# Altium footprint library BatteryIot -V2.PcbLib: 31 footprints (part 1 of 2)
Each footprint in its own frame and in the unit in brackets; x right, y up, seen from the top. Pads: shape width x height; smd on the part's side, far side on the other; paste and mask are expansions set on the pad; w line width, h text height; cw(c..) or ccw(c..) is an arc to the next point about the centre after c.
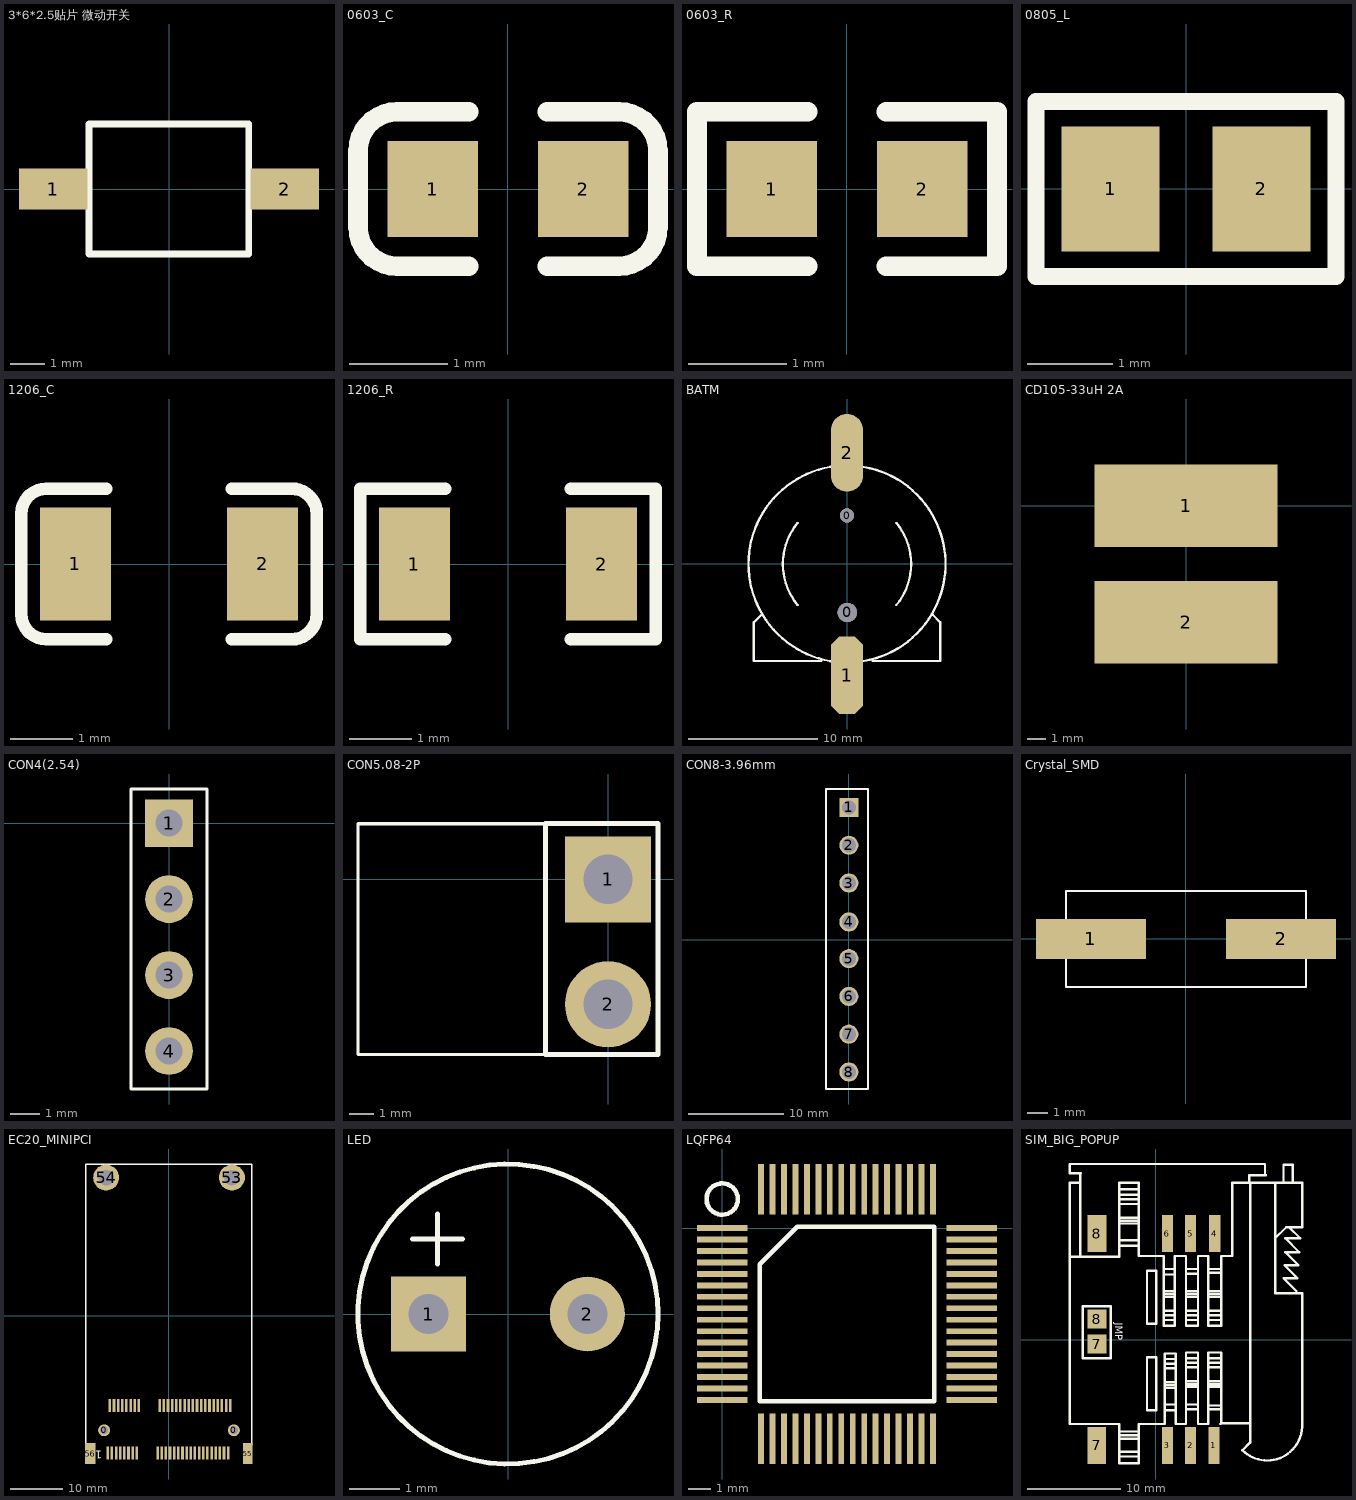
[diagram p0: the footprints below, top view; thin cyan lines are the x and y axes]

## 3*6*2.5贴片 微动开关 [mm]
height 10
pads (2):
  rect 2x1.2 smd mask+0.05: 1(-3.375,0) 2(3.375,0)
Top Overlay:
  lines w0.2: -2.334,-1.9 2.325,-1.9 2.325,1.9 -2.334,1.9 -2.334,-1.9

## 0603_C [mm]
height 1.7
pads (2):
  rect 0.93x0.98 smd: 1(-0.77,0) 2(0.77,0)
Top Overlay:
  lines w0.2: -0.4,-0.79 -1.135,-0.79 cw(c-1.135,-0.39) -1.535,-0.39 -1.535,0.39 cw(c-1.135,0.39) -1.135,0.79 -0.4,0.79 ; 0.4,-0.79 1.135,-0.79 ccw(c1.135,-0.39) 1.535,-0.39 1.535,0.39 ccw(c1.135,0.39) 1.135,0.79 0.4,0.79
3D body "User Library-0603 SMD Capacitor.STEP": height 0.3, standoff 0, extent -0.8,-0.4 0.8,0.4

## 0603_R [mm]
height 29
pads (2):
  rect 0.93x0.98 smd: 1(-0.77,0) 2(0.77,0)
Top Overlay:
  lines w0.2: -0.4,-0.79 -1.535,-0.79 -1.535,0.79 -0.4,0.79 ; 0.4,-0.79 1.535,-0.79 1.535,0.79 0.4,0.79
3D body "User Library-RES_1609-0603.STEP": height 0.56, standoff 0, extent -0.85,-0.4 0.85,0.4

## 0805_L [mm]
height 29
pads (2):
  rect 1.16x1.47 smd: 1(-0.89,0) 2(0.89,0)
Top Overlay:
  lines w0.2: -1.77,-1.035 1.77,-1.035 1.77,1.035 -1.77,1.035 -1.77,-1.035
3D body "L0805.STEP": height 0.6, standoff -0.02, extent -0.998,-0.638 1.005,0.637

## 1206_C [mm]
pads (2):
  rect 1.13x1.8 smd: 1(-1.49,0) 2(1.49,0)
Top Overlay:
  lines w0.2: -1,-1.2 -1.955,-1.2 cw(c-1.955,-0.8) -2.355,-0.8 -2.355,0.8 cw(c-1.955,0.8) -1.955,1.2 -1,1.2 ; 1,-1.2 1.955,-1.2 ccw(c1.955,-0.8) 2.355,-0.8 2.355,0.8 ccw(c1.955,0.8) 1.955,1.2 1,1.2
3D body "C1206.STEP": height 1, standoff 0, extent -1.602,-0.813 1.598,0.787

## 1206_R [mm]
pads (2):
  rect 1.13x1.8 smd: 1(-1.49,0) 2(1.49,0)
Top Overlay:
  lines w0.2: -1,-1.2 -2.355,-1.2 -2.355,1.2 -1,1.2 ; 1,-1.2 2.355,-1.2 2.355,1.2 1,1.2
3D body "User Library-RES_3216-1206.STEP": height 0.85, standoff 0, extent -1.7,-0.864 1.65,0.866

## BATM [mm]
height 29
pads (4):
  round 1.1 hole 1.1 unplated: 0(0,3.748)
  round 1.5 hole 1.5 unplated: 0(0.025,-3.752)
  oct 2.5x6 smd: 1(0,-8.602)
  oval 2.5x6 smd: 2(0,8.598)
Top Overlay:
  lines w0.178: -6.6,-3.902 -7.2,-4.502 -7.2,-7.502 -2,-7.502 ; -3.815,-3.171 cw(c0,-0.002) -3.812,3.171 ; -0.833,-7.576 cw(c0,-0.002) -7.62,-0.002 cw(c0,-0.002) -0.833,7.573 ; 0.833,-7.576 ccw(c0,-0.002) 0.833,7.573 ; 2,-7.502 7.2,-7.502 7.2,-4.502 6.625,-3.927 ; 3.81,-3.177 ccw(c0,-0.002) 3.812,3.171

## CD105-33uH 2A [mm]
height 5.4
pads (2):
  rect 10.2x4.6 smd: 1(0,0) 2(0,-6.477)

## CON4(2.54) [mm]
height 29
pads (4):
  rect 1.6x1.6 hole 0.9 mask+0.05: 1(0,0)
  round 1.6 hole 0.9 mask+0.05: 2(0,-2.54)
  round 1.6 hole 0.9: 3(0,-5.08) 4(0,-7.62)
Top Overlay:
  lines w0.1: -1.27,-8.89 1.27,-8.89 1.27,1.143 -1.27,1.143 -1.27,-8.89

## CON5.08-2P [mm]
height 8.2
pads (2):
  rect 3.5x3.5 hole 2: 1(0,0)
  round 3.5 hole 2: 2(0,-5.08)
Top Overlay:
  lines w0.127: -2.032,-7.112 -10.16,-7.112 -10.16,2.261 -2.032,2.261
  lines w0.2: -2.54,-7.112 -2.54,2.261 2.032,2.261 2.032,-7.112 -2.54,-7.112

## CON8-3.96mm [mm]
pads (8):
  rect 2x2 hole 1.5: 1(0,13.86)
  round 2 hole 1.5: 2(0,9.9) 3(0,5.94) 4(0,1.86) 5(0,-1.98) 6(0,-5.94) 7(0,-9.9) 8(0,-13.86)
Top Overlay:
  lines w0.2: -2.4,-15.64 2,-15.64 2,15.79 -2.4,15.79 -2.4,-15.64

## Crystal_SMD [mm]
height 3.8
pads (2):
  rect 5.5x2 smd: 1(-4.75,0) 2(4.75,0)
Top Overlay:
  lines w0.1: -6,-1 -6,-2.4 -4.8,-2.4 4.8,-2.4 6,-2.4 6,-1 ; -6,1 -6,2.4 -4.8,2.4 4.8,2.4 6,2.4 6,1

## EC20_MINIPCI [mm]
height 10
pads (58):
  round 2.286 hole 1.524: 0(-12.5,-22.1) 0(12.5,-22.1)
  rect 0.5x2.5 smd: 1(-11.8,-26.45) 2(-11.4,-17.35) 3(-11,-26.45) 4(-10.6,-17.35) 5(-10.2,-26.45) 6(-9.8,-17.35) 7(-9.4,-26.45) 8(-9,-17.35) 9(-8.6,-26.45) 10(-8.2,-17.35) 11(-7.8,-26.45) 12(-7.4,-17.35) 13(-7,-26.45) 14(-6.6,-17.35) 15(-6.2,-26.45) 16(-5.8,-17.35) 17(-2.2,-26.45) 18(-1.8,-17.35) 19(-1.4,-26.45) 20(-1,-17.35) 21(-0.6,-26.45) 22(-0.2,-17.35) 23(0.2,-26.45) 24(0.6,-17.35) 25(1,-26.45) 26(1.4,-17.35) 27(1.8,-26.45) 28(2.2,-17.35) 29(2.6,-26.45) 30(3,-17.35) 31(3.4,-26.45) 32(3.8,-17.35) 33(4.2,-26.45) 34(4.6,-17.35) 35(5,-26.45) 36(5.4,-17.35) 37(5.8,-26.45) 38(6.2,-17.35) 39(6.6,-26.45) 40(7,-17.35) 41(7.4,-26.45) 42(7.8,-17.35) 43(8.2,-26.45) 44(8.6,-17.35) 45(9,-26.45) 46(9.4,-17.35) 47(9.8,-26.45) 48(10.2,-17.35) 49(10.6,-26.45) 50(11,-17.35) 51(11.4,-26.45) 52(11.8,-17.35)
  round 5 hole 3: 53(12.12,26.6) 54(-12.116,26.6)
  rect 1.8x4 smd: 55(15.15,-26.6)
  rect 2x4 smd: 56(-15.15,-26.6)
Top Overlay:
  lines w0.254: -16.036,7.5 -16.032,-25.01 ; -16.036,7.502 -16.032,7.502 -16.032,23.252 ; -16.032,23.25 -16.032,29.184 -16.008,29.208 15.948,29.208 15.972,29.184 15.972,23.252 15.972,7.502 ; 15.972,-25.01 15.972,7.638
  text "1" at -12.9,-26.031 h1.52

## LED [mm]
pads (2):
  rect 1.5x1.5 hole 0.8: 1(-1.587,0)
  round 1.5 hole 0.8: 2(1.587,0)
Top Overlay:
  circle w0.1: c0,0 r3
  lines w0.1: -1.913,1.5 -0.913,1.5 ; -1.413,1 -1.413,2

## LQFP64 [mm]
height 29
pads (64):
  rect 2.2x0.254 smd: 1(0,0) 2(0,-0.5) 3(0,-1) 4(0,-1.5) 5(0,-2) 6(0,-2.5) 7(0,-3) 8(0,-3.5) 9(0,-4) 10(0,-4.5) 11(0,-5) 12(0,-5.5) 13(0,-6) 14(0,-6.5) 15(0,-7) 16(0,-7.5) 33(10.9,-7.5) 34(10.9,-7) 35(10.9,-6.5) 36(10.9,-6) 37(10.9,-5.5) 38(10.9,-5) 39(10.9,-4.5) 40(10.9,-4) 41(10.9,-3.5) 42(10.9,-3) 43(10.9,-2.5) 44(10.9,-2) 45(10.9,-1.5) 46(10.9,-1) 47(10.9,-0.5) 48(10.9,0)
  rect 0.254x2.2 smd: 17(1.7,-9.2) 18(2.2,-9.2) 19(2.7,-9.2) 20(3.2,-9.2) 21(3.7,-9.2) 22(4.2,-9.2) 23(4.7,-9.2) 24(5.2,-9.2) 25(5.7,-9.2) 26(6.2,-9.2) 27(6.7,-9.2) 28(7.2,-9.2) 29(7.7,-9.2) 30(8.2,-9.2) 31(8.7,-9.2) 32(9.2,-9.2) 49(9.2,1.7) 50(8.7,1.7) 51(8.2,1.7) 52(7.7,1.7) 53(7.2,1.7) 54(6.7,1.7) 55(6.2,1.7) 56(5.7,1.7) 57(5.2,1.7) 58(4.7,1.7) 59(4.2,1.7) 60(3.7,1.7) 61(3.2,1.7) 62(2.7,1.7) 63(2.2,1.7) 64(1.7,1.7)
Top Overlay:
  circle w0.2: c0,1.27 r0.684
  lines w0.2: 1.635,-7.565 1.635,-1.57 3.27,0.065 9.265,0.065 9.265,-7.565 1.635,-7.565

## SIM_BIG_POPUP [mm]
height 29
pads (10):
  rect 1.2x4 smd: 1(6.25,-11.4) 2(3.75,-11.4) 3(1.25,-11.4) 4(6.35,11.4) 5(3.75,11.4) 6(1.25,11.4)
  rect 2.032x2.032 smd: 7(-6.35,-0.5) 8(-6.35,2.2)
  rect 2x4 smd: 7(-6.35,-11.4)
  rect 2.032x4 smd: 8(-6.35,11.4)
Top Overlay:
  drawing of 160 lines, arcs and shapes, not listed
  text "JMP" at -4.35,1.8 h0.8